# Altium schematic symbol library SectionC_BreakOut.SchLib: 1 symbol
Pins are listed as number, name and electrical type; pins without a type are passive.

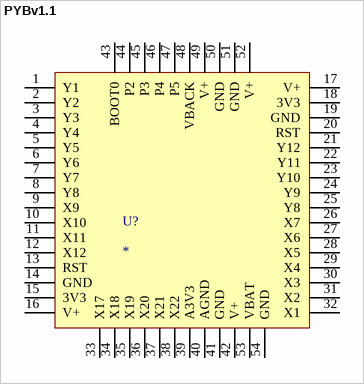
[diagram p0: symbol PYBv1.1]

## PYBv1.1
designator U?
footprint PYBv1.1
pins: 1 Y1, 2 Y2, 3 Y3, 4 Y4, 5 Y5, 6 Y6, 7 Y7, 8 Y8, 9 X9, 10 X10, 11 X11, 12 X12, 13 RST, 14 GND, 15 3V3, 16 V+, 17 V+, 18 3V3, 19 GND, 20 RST, 21 Y12, 22 Y11, 23 Y10, 24 Y9, 25 Y8, 26 X7, 27 X6, 28 X5, 29 X4, 30 X3, 31 X2, 32 X1, 33 X17, 34 X18, 35 X19, 36 X20, 37 X21, 38 X22, 39 A3V3, 40 AGND, 41 GND, 42 V+, 43 BOOT0, 44 P2, 45 P3, 46 P4, 47 P5, 48 VBACK, 49 V+, 50 GND, 51 GND, 52 V+, 53 VBAT, 54 GND